# Altium footprint library jumpers.PcbLib: 2 footprints
Each footprint in its own frame and in the unit in brackets; x right, y up, seen from the top. Pads: shape width x height; smd on the part's side, far side on the other; paste and mask are expansions set on the pad; w line width, h text height; cw(c..) or ccw(c..) is an arc to the next point about the centre after c.
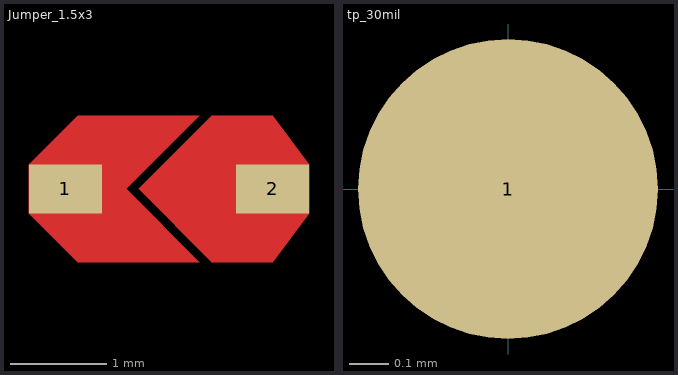
[diagram p0: the footprints below, top view; thin cyan lines are the x and y axes]

## Jumper_1.5x3 [mil]
pads (2):
  rect 30x20 smd paste-20: 1(375,400) 2(460,400)
Top Layer:
  region: 435,370 405,400 435,430 460,430 475,410 475,400 475,390 460,370 450,370
  region: 430,430 400,400 430,370 380,370 360,390 360,400 360,410 380,430 390,430
Top Solder:
  region: 434,434 464,434 479,414 479,399 479,386 464,366 434,366 377,366 356,386 356,414 378,434

## tp_30mil [mil] "30 mil test point"
pads (1):
  round 30 smd: 1(0,0)